# Altium schematic symbol library BB-HEADER-P12-P22.SchLib: 1 symbol
Pins are listed as number, name and electrical type; pins without a type are passive.

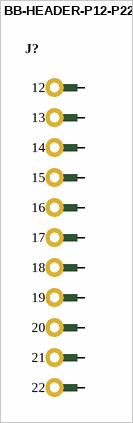
[diagram p0: symbol BB-HEADER-P12-P22]

## BB-HEADER-P12-P22
designator J?  (value not drawn)
BB Header, Vertical, Male, 0.1", 2.54mm, P12-P22
pins: 12, 13, 14, 15, 16, 17, 18, 19, 20, 21, 22